# Altium footprint library DIP Package.PcbLib: 16 footprints
Each footprint in its own frame and in the unit in brackets; x right, y up, seen from the top. Pads: shape width x height; smd on the part's side, far side on the other; paste and mask are expansions set on the pad; w line width, h text height; cw(c..) or ccw(c..) is an arc to the next point about the centre after c.
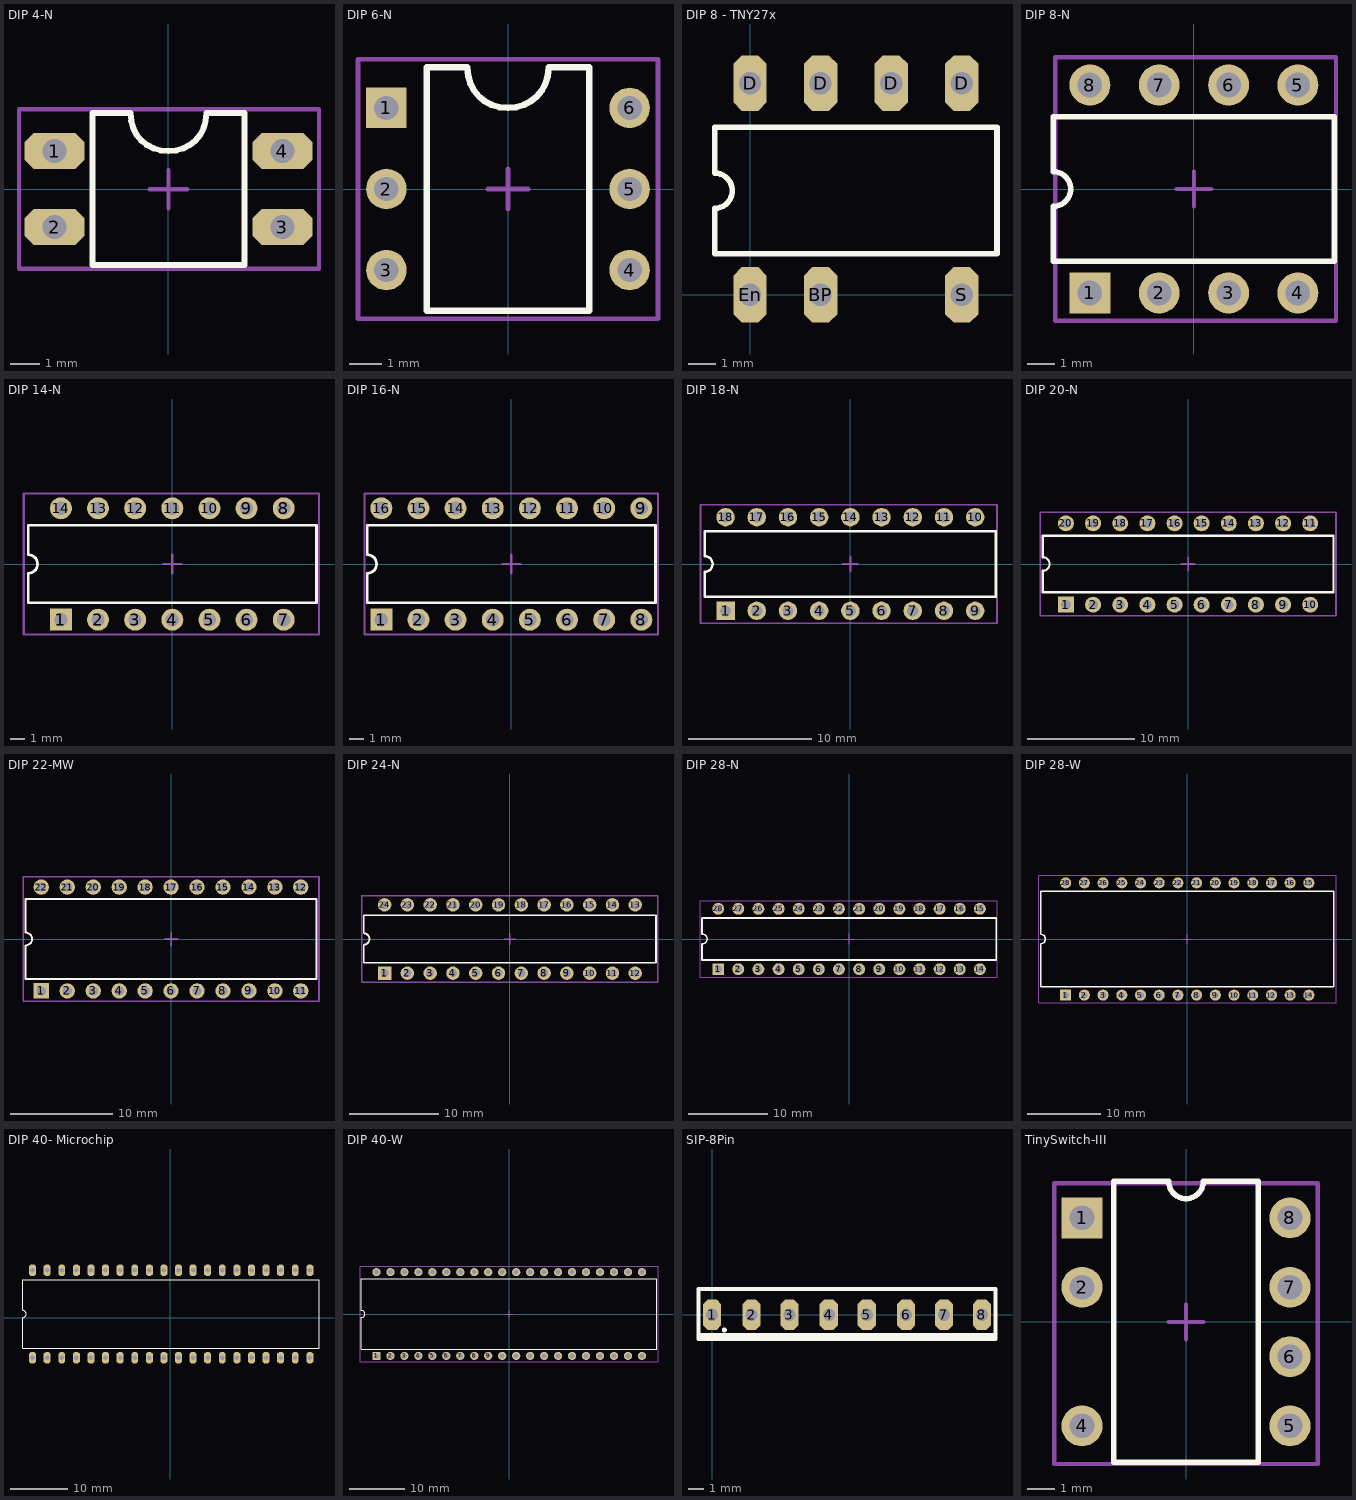
[diagram p0: the footprints below, top view; thin cyan lines are the x and y axes]

## DIP 4-N [mm] "DIP; 4 Leads; Row Spacing 7.62 mm; Pitch 2.54 mm"
pads (4):
  oct 2x1.2 hole 0.8: 1(-3.81,1.27) 2(-3.81,-1.27) 3(3.81,-1.27) 4(3.81,1.27)
Top Overlay:
  lines w0.203: -2.54,-2.54 -2.54,2.54 -1.27,2.54 -1.245,2.273 -1.176,2.032 -1.062,1.814 -0.912,1.628 -0.726,1.478 -0.508,1.364 -0.267,1.295 0,1.27 0.259,1.295 0.498,1.364 0.714,1.478 0.902,1.628 1.057,1.814 1.171,2.032 1.245,2.273 1.27,2.54 2.54,2.54 2.54,-2.54 -2.54,-2.54
Mechanical 15:
  lines w0.15: -0.635,0 0.635,0 ; 0,-0.635 0,0.635 ; -5,-2.666 5.033,-2.666 5.033,2.668 -5,2.668 -5,-2.666
3D body "User Library-DIP4.step": height 4.25, standoff -2.05, extent -3.935,-2.297 3.935,2.297

## DIP 6-N [mil] "DIP; 6 Leads; Row Spacing 7.62 mm; Pitch 2.54 mm"
pads (6):
  rect 50x50 hole 30: 1(-150,100)
  round 50 hole 30: 2(-150,0) 3(-150,-100) 4(150,-100) 5(150,0) 6(150,100)
Top Overlay:
  lines w8: -100,-150 100,-150 100,150 50,150 49,139.5 46.1,130 41.6,121.4 35.5,114.1 28.1,108.2 19.6,103.7 10.2,101 0,100 -10.5,101 -20,103.7 -28.6,108.2 -35.9,114.1 -41.8,121.4 -46.3,130 -49,139.5 -50,150 -100,150 -100,-150
Mechanical 15:
  lines w5.91: -25,0 25,0 ; 0,-25 0,25 ; -185,-160 185,-160 185,160 -185,160 -185,-160
3D body "CircuitWorks-DIP6.step": height 209.06, standoff -89.76, extent -150,-159.06 164.96,159.06

## DIP 8 - TNY27x [mm]
pads (7):
  oct 1.2x2 hole 0.8: BP(2.54,0) D(0,7.62) D(2.54,7.62) D(5.08,7.62) D(7.62,7.62) En(0,0) S(7.62,0)
Top Overlay:
  lines w0.2: -1.275,6.036 -1.275,5.623 -1.275,4.798 -1.275,4.385 cw(c-1.275,3.75) -1.275,3.115 -1.275,1.475 8.89,1.475 8.89,6.025 -1.27,6.025
3D body "User Library-DIP-8 for TNY-1.STEP": height 4.36, standoff -3, extent -0.9,-0.135 8.5,7.735

## DIP 8-N [mm] "DIP; 8 Leads; Row Spacing 7.62 mm; Pitch 2.54 mm"
height 5.08
pads (8):
  rect 1.5x1.5 hole 0.9: 1(-3.81,-3.81)
  round 1.5 hole 0.9: 2(-1.27,-3.81) 3(1.27,-3.81) 4(3.81,-3.81) 5(3.81,3.81) 6(1.27,3.81) 7(-1.27,3.81) 8(-3.81,3.81)
Top Overlay:
  lines w0.2: -5.15,-2.65 -5.15,-0.635 ccw(c-5.15,0) -5.15,0.635 -5.15,2.65 5.15,2.65 5.15,-2.65 -5.15,-2.65
Mechanical 15:
  lines w0.15: -0.635,0 0.635,0 ; 0,-0.635 0,0.635 ; -5.08,-4.826 -5.08,4.826 5.207,4.826 5.207,-4.826 -5.08,-4.826
3D body "User Library-DIP8test.STEP": height 6.57, standoff -1.81, extent -4.955,-3.91 4.955,3.91

## DIP 14-N [mm] "DIP; 14 Leads; Row Spacing 7.62 mm; Pitch 2.54 mm"
height 5.33
pads (14):
  rect 1.5x1.5 hole 0.9: 1(-7.62,-3.81)
  round 1.5 hole 0.9: 2(-5.08,-3.81) 3(-2.54,-3.81) 4(0,-3.81) 5(2.54,-3.81) 6(5.08,-3.81) 7(7.62,-3.81) 8(7.62,3.81) 9(5.08,3.81) 10(2.54,3.81) 11(0,3.81) 12(-2.54,3.81) 13(-5.08,3.81) 14(-7.62,3.81)
Top Overlay:
  lines w0.2: -9.85,-2.65 9.85,-2.65 9.85,2.65 -9.85,2.65 -9.85,0.635 cw(c-9.85,0) -9.85,-0.635 -9.85,-2.65
Mechanical 15:
  lines w0.15: -0.635,0 0.635,0 ; 0,-0.635 0,0.635 ; -10.16,-4.826 10.033,-4.826 10.033,4.826 -10.16,4.826 -10.16,-4.826
3D body "SW3DPS-DIP-14-DEFAULT.STEP": height 4.05, standoff -2.93, extent -9.5,-4 9.55,4

## DIP 16-N [mm] "DIP; 16 Leads; Row Spacing 7.62 mm; Pitch 2.54 mm"
height 5.33
pads (16):
  rect 1.5x1.5 hole 0.9: 1(-8.89,-3.81)
  round 1.5 hole 0.9: 2(-6.35,-3.81) 3(-3.81,-3.81) 4(-1.27,-3.81) 5(1.27,-3.81) 6(3.81,-3.81) 7(6.35,-3.81) 8(8.89,-3.81) 9(8.89,3.81) 10(6.35,3.81) 11(3.81,3.81) 12(1.27,3.81) 13(-1.27,3.81) 14(-3.81,3.81) 15(-6.35,3.81) 16(-8.89,3.81)
Top Overlay:
  lines w0.2: -9.85,-2.65 -9.85,-0.635 ccw(c-9.85,0) -9.85,0.635 -9.85,2.65 9.85,2.65 9.85,-2.65 -9.85,-2.65
Mechanical 15:
  lines w0.15: -0.635,0 0.635,0 ; 0,-0.635 0,0.635 ; -10.033,-4.826 -10.033,4.826 10.033,4.826 10.033,-4.826 -10.033,-4.826
3D body "SW3DPS-DIP16-DEFAULT.STEP": height 4.24, standoff -2.51, extent -10.795,-4.064 10.795,3.81

## DIP 18-N [mm] "DIP; 18 Leads; Row Spacing 7.62 mm; Pitch 2.54 mm"
height 5.33
pads (18):
  rect 1.5x1.5 hole 0.9: 1(-10.16,-3.81)
  round 1.5 hole 0.9: 2(-7.62,-3.81) 3(-5.08,-3.81) 4(-2.54,-3.81) 5(0,-3.81) 6(2.54,-3.81) 7(5.08,-3.81) 8(7.62,-3.81) 9(10.16,-3.81) 10(10.16,3.81) 11(7.62,3.81) 12(5.08,3.81) 13(2.54,3.81) 14(0,3.81) 15(-2.54,3.81) 16(-5.08,3.81) 17(-7.62,3.81) 18(-10.16,3.81)
Top Overlay:
  lines w0.2: -11.85,-2.65 11.85,-2.65 11.85,2.65 -11.85,2.65 -11.85,0.635 cw(c-11.85,0) -11.85,-0.635 -11.85,-2.65
Mechanical 15:
  lines w0.15: -0.635,0 0.635,0 ; 0,-0.635 0,0.635 ; -12.192,-4.826 11.938,-4.826 11.938,4.826 -12.192,4.826 -12.192,-4.826
3D body "User Library-DIP18-1.STEP": height 6.57, standoff -1.81, extent -11.62,-3.91 11.62,3.91

## DIP 20-N [mm] "DIP; 20 Leads; Row Spacing 7.62 mm; Pitch 2.54 mm"
height 5.33
pads (20):
  rect 1.5x1.5 hole 0.9: 1(-11.43,-3.81)
  round 1.5 hole 0.9: 2(-8.89,-3.81) 3(-6.35,-3.81) 4(-3.81,-3.81) 5(-1.27,-3.81) 6(1.27,-3.81) 7(3.81,-3.81) 8(6.35,-3.81) 9(8.89,-3.81) 10(11.43,-3.81) 11(11.43,3.81) 12(8.89,3.81) 13(6.35,3.81) 14(3.81,3.81) 15(1.27,3.81) 16(-1.27,3.81) 17(-3.81,3.81) 18(-6.35,3.81) 19(-8.89,3.81) 20(-11.43,3.81)
Top Overlay:
  lines w0.2: -13.6,-2.65 13.6,-2.65 13.6,2.65 -13.6,2.65 -13.6,0.635 cw(c-13.6,0) -13.6,-0.635 -13.6,-2.65
Mechanical 15:
  lines w0.15: -0.635,0 0.635,0 ; 0,-0.635 0,0.635 ; -13.843,-4.826 13.843,-4.826 13.843,4.826 -13.843,4.826 -13.843,-4.826
3D body "User Library-DIP20.STEP": height 6.57, standoff -1.81, extent -13.27,-3.91 13.27,3.91

## DIP 22-MW [mm] "DIP; 22 Leads; Row Spacing 10.16 mm; Pitch 2.54 mm"
height 5.33
pads (22):
  rect 1.5x1.5 hole 0.9: 1(-12.7,-5.08)
  round 1.5 hole 0.9: 2(-10.16,-5.08) 3(-7.62,-5.08) 4(-5.08,-5.08) 5(-2.54,-5.08) 6(0,-5.08) 7(2.54,-5.08) 8(5.08,-5.08) 9(7.62,-5.08) 10(10.16,-5.08) 11(12.7,-5.08) 12(12.7,5.08) 13(10.16,5.08) 14(7.62,5.08) 15(5.08,5.08) 16(2.54,5.08) 17(0,5.08) 18(-2.54,5.08) 19(-5.08,5.08) 20(-7.62,5.08) 21(-10.16,5.08) 22(-12.7,5.08)
Top Overlay:
  lines w0.2: -14.25,-3.9 -14.25,-0.635 ccw(c-14.25,0) -14.25,0.635 -14.25,3.9 14.25,3.9 14.25,-3.9 -14.25,-3.9
Mechanical 15:
  lines w0.15: -0.635,0 0.635,0 ; 0,-0.635 0,0.635 ; -14.478,-6.096 14.478,-6.096 14.478,6.096 -14.478,6.096 -14.478,-6.096

## DIP 24-N [mm] "DIP; 24 Leads; Row Spacing 7.62 mm; Pitch 2.54 mm"
height 5.33
pads (24):
  rect 1.5x1.5 hole 0.9: 1(-13.97,-3.81)
  round 1.5 hole 0.9: 2(-11.43,-3.81) 3(-8.89,-3.81) 4(-6.35,-3.81) 5(-3.81,-3.81) 6(-1.27,-3.81) 7(1.27,-3.81) 8(3.81,-3.81) 9(6.35,-3.81) 10(8.89,-3.81) 11(11.43,-3.81) 12(13.97,-3.81) 13(13.97,3.81) 14(11.43,3.81) 15(8.89,3.81) 16(6.35,3.81) 17(3.81,3.81) 18(1.27,3.81) 19(-1.27,3.81) 20(-3.81,3.81) 21(-6.35,3.81) 22(-8.89,3.81) 23(-11.43,3.81) 24(-13.97,3.81)
Top Overlay:
  lines w0.2: -16.3,-2.65 16.3,-2.65 16.3,2.65 -16.3,2.65 -16.3,0.635 cw(c-16.3,0) -16.3,-0.635 -16.3,-2.65
Mechanical 15:
  lines w0.15: -0.635,0 0.635,0 ; 0,-0.635 0,0.635 ; -16.51,-4.826 -16.51,4.826 16.51,4.826 16.51,-4.826 -16.51,-4.826
3D body "User Library-DIP24.STEP": height 6.07, standoff -2.31, extent -16.065,-3.91 16.065,3.91

## DIP 28-N [mm] "28-Pin Ceramic Dual In-Line Package (CerDIP)"
height 5.08
pads (28):
  rect 1.5x1.5 hole 0.9: 1(-16.51,-3.81)
  round 1.5 hole 0.9: 2(-13.97,-3.81) 3(-11.43,-3.81) 4(-8.89,-3.81) 5(-6.35,-3.81) 6(-3.81,-3.81) 7(-1.27,-3.81) 8(1.27,-3.81) 9(3.81,-3.81) 10(6.35,-3.81) 11(8.89,-3.81) 12(11.43,-3.81) 13(13.97,-3.81) 14(16.51,-3.81) 15(16.51,3.81) 16(13.97,3.81) 17(11.43,3.81) 18(8.89,3.81) 19(6.35,3.81) 20(3.81,3.81) 21(1.27,3.81) 22(-1.27,3.81) 23(-3.81,3.81) 24(-6.35,3.81) 25(-8.89,3.81) 26(-11.43,3.81) 27(-13.97,3.81) 28(-16.51,3.81)
Top Overlay:
  lines w0.2: -18.55,-2.65 18.55,-2.65 18.55,2.65 -18.55,2.65 -18.55,0.635 cw(c-18.55,0) -18.55,-0.635 -18.55,-2.65
Mechanical 15:
  lines w0.15: -0.635,0 0.635,0 ; 0,-0.635 0,0.635 ; -18.796,-4.826 -18.796,4.826 18.669,4.826 18.669,-4.826 -18.796,-4.826
3D body "User Library-DIP28.STEP": height 6.57, standoff -1.81, extent -17.525,-3.91 17.525,3.91

## DIP 28-W [mm] "DIP; 28 Leads; Row Spacing 15.24 mm; Pitch 2.54 mm"
height 6.35
pads (28):
  rect 1.5x1.5 hole 0.9: 1(-16.51,-7.62)
  round 1.5 hole 0.9: 2(-13.97,-7.62) 3(-11.43,-7.62) 4(-8.89,-7.62) 5(-6.35,-7.62) 6(-3.81,-7.62) 7(-1.27,-7.62) 8(1.27,-7.62) 9(3.81,-7.62) 10(6.35,-7.62) 11(8.89,-7.62) 12(11.43,-7.62) 13(13.97,-7.62) 14(16.51,-7.62) 15(16.51,7.62) 16(13.97,7.62) 17(11.43,7.62) 18(8.89,7.62) 19(6.35,7.62) 20(3.81,7.62) 21(1.27,7.62) 22(-1.27,7.62) 23(-3.81,7.62) 24(-6.35,7.62) 25(-8.89,7.62) 26(-11.43,7.62) 27(-13.97,7.62) 28(-16.51,7.62)
Top Overlay:
  lines w0.2: -19.9,-6.45 -19.9,-0.635 ccw(c-19.9,0) -19.9,0.635 -19.9,6.45 19.9,6.45 19.9,-6.45 -19.9,-6.45
Mechanical 15:
  lines w0.15: -0.635,0 0.635,0 ; 0,-0.635 0,0.635 ; -20.193,-8.636 20.193,-8.636 20.193,8.636 -20.193,8.636 -20.193,-8.636
3D body "User Library-DIP28 Wide.STEP": height 6.59, standoff -2.31, extent -18.67,-7.72 18.67,7.72

## DIP 40- Microchip [mm]
height 0.508
pads (40):
  oct 1.2x2 hole 0.8: 1(-24.003,-6.985) 2(-21.463,-6.985) 3(-18.923,-6.985) 4(-16.383,-6.985) 5(-13.843,-6.985) 6(-11.303,-6.985) 7(-8.763,-6.985) 8(-6.223,-6.985) 9(-3.683,-6.985) 10(-1.143,-6.985) 11(1.397,-6.985) 12(3.937,-6.985) 13(6.477,-6.985) 14(9.017,-6.985) 15(11.557,-6.985) 16(14.097,-6.985) 17(16.637,-6.985) 18(19.177,-6.985) 19(21.717,-6.985) 20(24.257,-6.985) 21(24.257,8.255) 22(21.717,8.255) 23(19.177,8.255) 24(16.637,8.255) 25(14.097,8.255) 26(11.557,8.255) 27(9.017,8.255) 28(6.477,8.255) 29(3.937,8.255) 30(1.397,8.255) 31(-1.143,8.255) 32(-3.683,8.255) 33(-6.223,8.255) 34(-8.763,8.255) 35(-11.303,8.255) 36(-13.843,8.255) 37(-16.383,8.255) 38(-18.923,8.255) 39(-21.463,8.255) 40(-24.003,8.255)
Top Overlay:
  lines w0.2: -25.725,1.27 cw(c-25.725,0.635) -25.725,0 -25.725,-0.648 -25.725,-5.334 25.85,-5.334 25.85,6.604 -25.725,6.604 -25.725,1.918 -25.725,1.275
3D body "User Library-DIP40-600-with-chip-Type1.STEP": height 8.21, standoff -3.02, extent -26.035,-8.228 26.225,9.472

## DIP 40-W [mm] "DIP; 40 Leads; Row Spacing 15.24 mm; Pitch 2.54 mm"
height 6.35
pads (40):
  rect 1.5x1.5 hole 0.9: 1(-24.13,-7.62)
  round 1.5 hole 0.9: 2(-21.59,-7.62) 3(-19.05,-7.62) 4(-16.51,-7.62) 5(-13.97,-7.62) 6(-11.43,-7.62) 7(-8.89,-7.62) 8(-6.35,-7.62) 9(-3.81,-7.62) 10(-1.27,-7.62) 11(1.27,-7.62) 12(3.81,-7.62) 13(6.35,-7.62) 14(8.89,-7.62) 15(11.43,-7.62) 16(13.97,-7.62) 17(16.51,-7.62) 18(19.05,-7.62) 19(21.59,-7.62) 20(24.13,-7.62) 21(24.13,7.62) 22(21.59,7.62) 23(19.05,7.62) 24(16.51,7.62) 25(13.97,7.62) 26(11.43,7.62) 27(8.89,7.62) 28(6.35,7.62) 29(3.81,7.62) 30(1.27,7.62) 31(-1.27,7.62) 32(-3.81,7.62) 33(-6.35,7.62) 34(-8.89,7.62) 35(-11.43,7.62) 36(-13.97,7.62) 37(-16.51,7.62) 38(-19.05,7.62) 39(-21.59,7.62) 40(-24.13,7.62)
Top Overlay:
  lines w0.2: -26.85,-6.45 26.85,-6.45 26.85,6.45 -26.85,6.45 -26.85,0.635 cw(c-26.85,0) -26.85,-0.635 -26.85,-6.45
Mechanical 15:
  lines w0.15: -0.635,0 0.635,0 ; 0,-0.635 0,0.635 ; -27.051,-8.636 27.051,-8.636 27.051,8.636 -27.051,8.636 -27.051,-8.636
3D body "User Library-DIP-40_IC_SOCKET.STEP": height 5.47, standoff -1.9, extent -25.4,-8.85 25.4,8.85

## SIP-8Pin [mm]
height 0.12
pads (8):
  oct 1.2x2 hole 0.8: 1(0,0) 2(2.6,0) 3(5.1,0) 4(7.7,0) 5(10.2,0) 6(12.8,0) 7(15.3,0) 8(17.8,0)
Top Overlay:
  circle w0.178: c0.8,-1 r0.076
  rectangle: -0.8,-1.6 18.7,-1.2
  lines w0.25: -0.9,-1.6 -0.9,1.7 -0.7,1.7 18.7,1.7 18.7,-1.6 -0.7,-1.6 -0.9,-1.6
3D body "User Library-SIP8.STEP": height 8.63, standoff -3.17, extent -0.7,-1.6 18.6,1.65

## TinySwitch-III [mm]
pads (7):
  rect 1.5x1.5 hole 0.9: 1(-3.81,3.81)
  round 1.5 hole 0.9: 2(-3.81,1.27) 4(-3.81,-3.81) 5(3.81,-3.81) 6(3.81,-1.27) 7(3.81,1.27) 8(3.81,3.81)
Top Overlay:
  lines w0.2: -2.65,-5.15 -2.65,5.15 -0.635,5.15 ccw(c0,5.15) 0.635,5.15 2.65,5.15 2.65,-5.15 -2.65,-5.15
Mechanical 15:
  lines w0.15: -0.635,0 0.635,0 ; 0,-0.635 0,0.635 ; -4.826,-5.207 4.826,-5.207 4.826,5.08 -4.826,5.08 -4.826,-5.207
3D body "User Library-DIP-8 for TNY-1.STEP": height 4.61, standoff -2.75, extent -3.935,-4.7 3.935,4.7